# Altium footprint library ESP32-S3-WROOM-1.PcbLib: 40 footprints (part 1 of 3)
Each footprint in its own frame and in the unit in brackets; x right, y up, seen from the top. Pads: shape width x height; smd on the part's side, far side on the other; paste and mask are expansions set on the pad; w line width, h text height; cw(c..) or ccw(c..) is an arc to the next point about the centre after c.
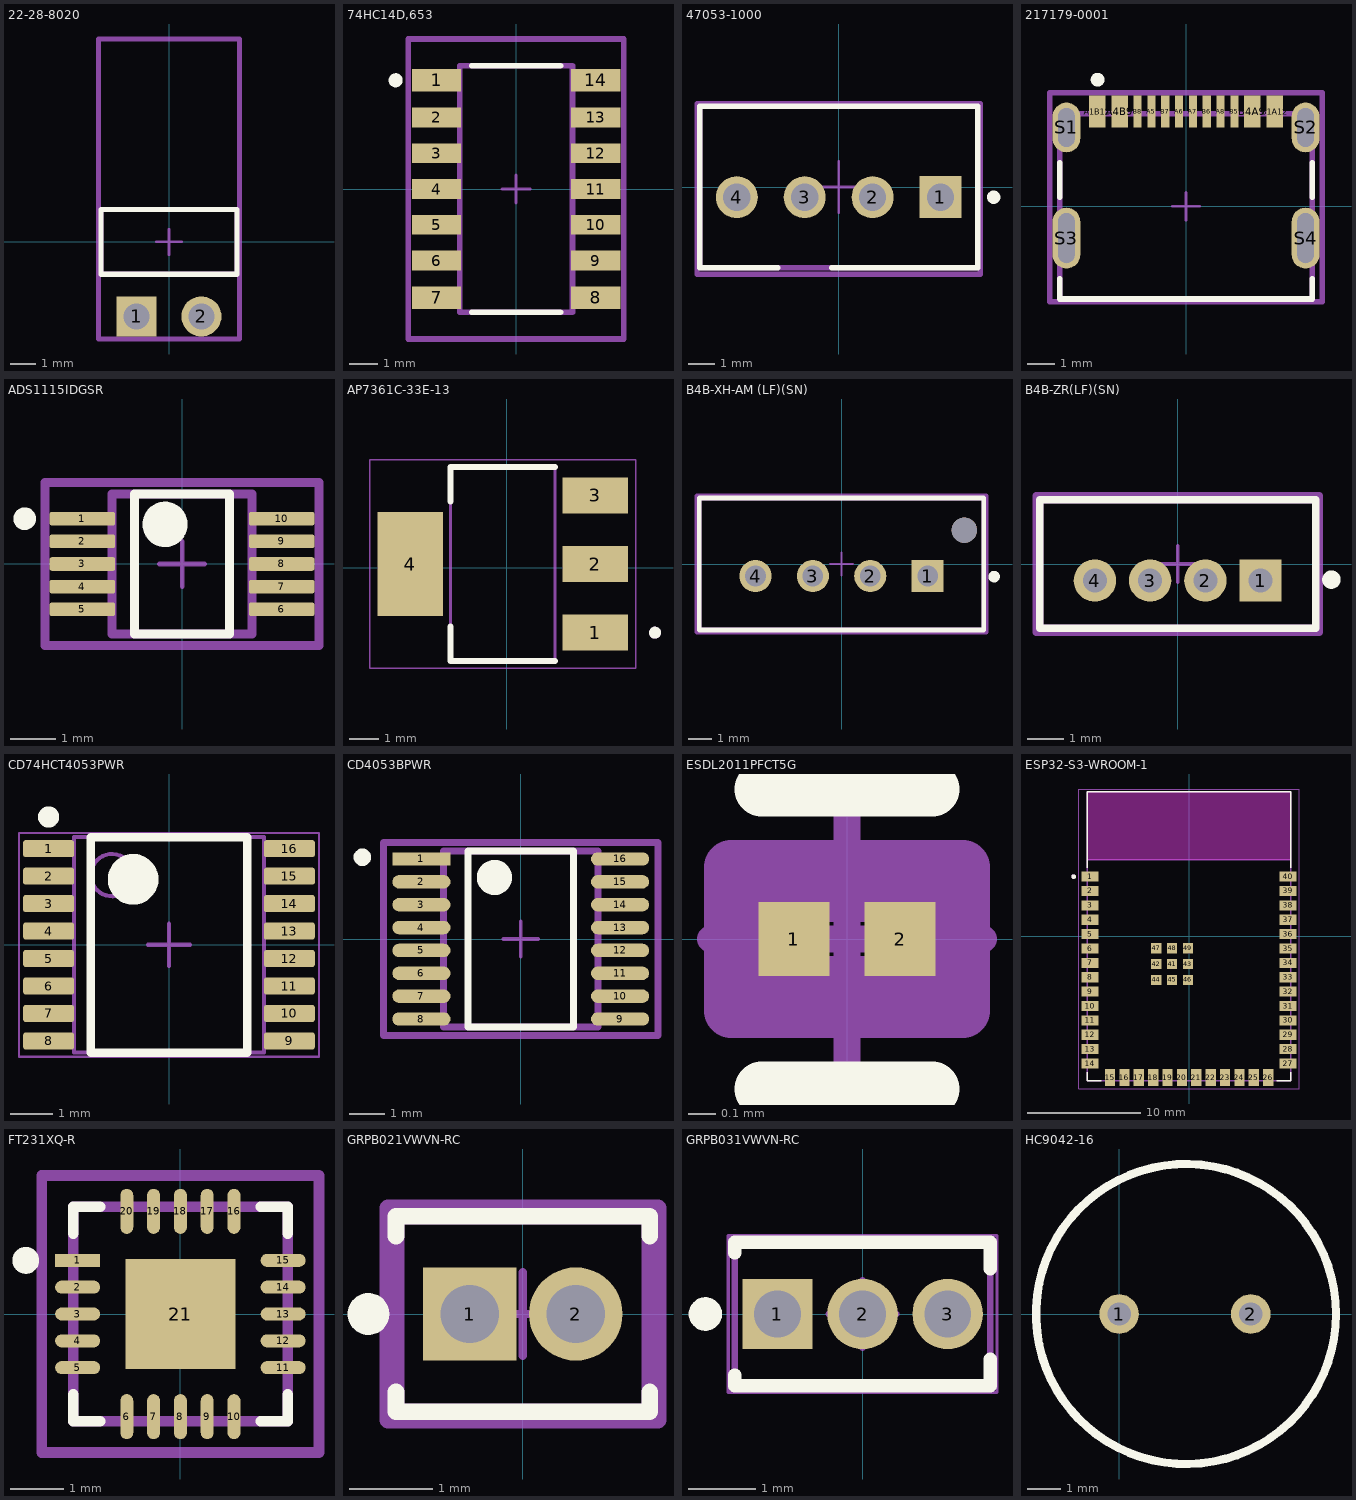
[diagram p0: the footprints below, top view; thin cyan lines are the x and y axes]

## 22-28-8020 [mm]
pads (2):
  rect 1.57x1.57 hole 1.02 paste-2539.97 mask+0: 1(-1.27,-2.925)
  round 1.57 hole 1.02 paste-2539.97 mask+0: 2(1.27,-2.925)
Top Overlay:
  lines w0.2: -2.665,-1.27 2.665,-1.27 2.665,1.27 -2.665,1.27 -2.665,-1.27
Top Assembly:
  lines w0.2: -2.765,-3.81 2.765,-3.81 2.765,7.95 -2.765,7.95 -2.765,-3.81
  text ".Designator" at 0,2.069 h1
Top 3D Body:
  lines w0.2: -2.665,-1.27 2.665,-1.27 2.665,1.27 -2.665,1.27 -2.665,-1.27
Top Courtyard:
  lines w0.2: -2.765,-3.81 2.765,-3.81 2.765,7.95 -2.765,7.95 -2.765,-3.81
Top Component Center:
  lines w0.1: -0.5,0 0.5,0 ; 0,-0.5 0,0.5
3D body "Conn_Molex_22-28-8020_eec.STEP": height 0.25, standoff 0, extent -2.765,-3.81 2.765,7.95

## 74HC14D,653 [mm]
pads (14):
  rect 1.75x0.8 smd paste-1000 mask+0: 1(-2.825,3.86) 7(-2.825,-3.86) 8(2.825,-3.86) 14(2.825,3.86)
  rect 1.75x0.7 smd paste-1000 mask+0: 2(-2.825,2.54) 3(-2.825,1.27) 4(-2.825,0) 5(-2.825,-1.27) 6(-2.825,-2.54) 9(2.825,-2.54) 10(2.825,-1.27) 11(2.825,0) 12(2.825,1.27) 13(2.825,2.54)
Top Overlay:
  circle w0.25: c-4.275,3.86 r0.125
  lines w0.2: -1.575,-4.375 1.575,-4.375 ; -1.575,4.375 1.575,4.375
Top Paste:
  rectangle: -3.65,2.24 -2,2.84
  rectangle: -3.65,0.97 -2,1.57
  rectangle: -3.65,-0.3 -2,0.3
  rectangle: -3.65,-1.57 -2,-0.97
  rectangle: -3.65,-2.84 -2,-2.24
  rectangle: 2,-2.84 3.65,-2.24
  rectangle: 2,-1.57 3.65,-0.97
  rectangle: 2,-0.3 3.65,0.3
  rectangle: 2,0.97 3.65,1.57
  rectangle: 2,2.24 3.65,2.84
  rectangle: -3.65,3.51 -2,4.21
  rectangle: -3.65,-4.21 -2,-3.51
  rectangle: 2,-4.21 3.65,-3.51
  rectangle: 2,3.51 3.65,4.21
Top Assembly:
  lines w0.2: -3.825,-5.325 3.825,-5.325 3.825,5.325 -3.825,5.325 -3.825,-5.325
  text ".Designator" at 0,0.188 h1
Top 3D Body:
  lines w0.2: -2,-4.375 2,-4.375 2,4.375 -2,4.375 -2,-4.375
Top Courtyard:
  lines w0.2: -3.825,-5.325 3.825,-5.325 3.825,5.325 -3.825,5.325 -3.825,-5.325
Top Component Center:
  lines w0.1: -0.5,0 0.5,0 ; 0,-0.5 0,0.5
3D body "IC_Nexperia_74HC14D_653_eec.STEP": height 0.25, standoff 0, extent -3.825,-5.325 3.825,5.325

## 47053-1000 [mm]
pads (4):
  rect 1.57x1.57 hole 1.02 paste-2539.97 mask+0: 1(3.81,-0.38)
  round 1.57 hole 1.02 paste-2539.97 mask+0: 2(1.27,-0.38) 3(-1.27,-0.38) 4(-3.81,-0.38)
Top Overlay:
  circle w0.25: c5.8,-0.38 r0.125
  lines w0.2: -2.27,-3.02 -5.2,-3.02 -5.2,3.02 5.2,3.02 5.2,-3.02 -0.27,-3.02
Top Assembly:
  lines w0.2: -5.3,-3.265 5.3,-3.265 5.3,3.12 -5.3,3.12 -5.3,-3.265
  text ".Designator" at 0,-0.073 h1
Top 3D Body:
  lines w0.2: -5.2,-3.02 5.2,-3.02 5.2,3.02 -5.2,3.02 -5.2,-3.02
Top Courtyard:
  lines w0.2: -5.3,-3.265 5.3,-3.265 5.3,3.12 -5.3,3.12 -5.3,-3.265
Top Component Center:
  lines w0.1: -0.958,0 0.958,0 ; 0,-0.958 0,0.958
3D body "Conn_Molex_470531000_eec.STEP": height 0.25, standoff 0, extent -5.3,-3.265 5.3,3.12

## 217179-0001 [mm]
pads (16):
  rect 0.6x1.15 smd paste+0 mask+0: A1B12(-3.2,3.425) A4B9(-2.4,3.425) B1A12(3.2,3.425) B4A9(2.4,3.425)
  rect 0.3x1.15 smd paste+0 mask+0: A5(-1.25,3.425) A6(-0.25,3.425) A7(0.25,3.425) A8(1.25,3.425) B5(1.75,3.425) B6(0.75,3.425) B7(-0.75,3.425) B8(-1.75,3.425)
  rrect100% 1x1.8 hole 1.4 slot 0.6 at 0 deg paste-2539.97 mask+0: S1(-4.32,2.85) S2(4.32,2.85)
  rrect100% 1x2.2 hole 1.8 slot 0.6 at 0 deg paste-2539.97 mask+0: S3(-4.32,-1.15) S4(4.32,-1.15)
Top Overlay:
  circle w0.25: c-3.195,4.575 r0.125
  lines w0.2: -4.57,-2.625 -4.57,-3.35 4.57,-3.35 4.57,-2.625 ; -4.57,0.325 -4.57,1.575 ; 4.57,0.325 4.57,1.575
Top Assembly:
  lines w0.2: -4.92,-3.45 -4.92,4.1 4.92,4.1 4.92,-3.45 -4.92,-3.45
  text ".Designator" at 0,0.513 h1
Top 3D Body:
  lines w0.2: -4.57,-3.35 -4.57,3.35 4.57,3.35 4.57,-3.35 -4.57,-3.35
Top Courtyard:
  lines w0.2: -4.92,-3.45 -4.92,4.1 4.92,4.1 4.92,-3.45 -4.92,-3.45
Top Component Center:
  lines w0.1: -0.5,0 0.5,0 ; 0,-0.5 0,0.5
3D body "Conn_Molex_2171790001_eec.STEP": height 0.25, standoff 0, extent -4.92,-3.45 4.92,4.1

## ADS1115IDGSR [mm]
pads (10):
  rrect33% 1.45x0.3 smd paste+0 mask+0: 1(-2.2,1) 2(-2.2,0.5) 3(-2.2,0) 4(-2.2,-0.5) 5(-2.2,-1) 6(2.2,-1) 7(2.2,-0.5) 8(2.2,0) 9(2.2,0.5) 10(2.2,1)
Top Overlay:
  circle w0.25: c-3.475,1 r0.125
  circle w0.5: c-0.375,0.875 r0.25
  lines w0.2: -1.05,-1.55 1.05,-1.55 1.05,1.55 -1.05,1.55 -1.05,-1.55
Top Assembly:
  lines w0.2: -3.025,-1.8 3.025,-1.8 3.025,1.8 -3.025,1.8 -3.025,-1.8
  text ".Designator" at 0,0.188 h1
Top 3D Body:
  lines w0.2: -1.55,-1.55 1.55,-1.55 1.55,1.55 -1.55,1.55 -1.55,-1.55
Top Courtyard:
  lines w0.2: -3.025,-1.8 3.025,-1.8 3.025,1.8 -3.025,1.8 -3.025,-1.8
Top Component Center:
  lines w0.1: -0.5,0 0.5,0 ; 0,-0.5 0,0.5
3D body "IC_Texas_Instruments_TS5A23159DGSR_eec.STEP": height 0.25, standoff 0, extent -3.025,-1.8 3.025,1.8

## AP7361C-33E-13 [mm]
pads (4):
  rect 2.2x1.2 smd: 1(2.973,-2.173) 2(2.973,0.127) 3(2.973,2.427)
  rect 2.2x3.5 smd: 4(-3.227,0.127)
Top Overlay:
  circle w0.2: c4.973,-2.173 r0.1
  lines w0.2: -1.877,-1.973 -1.877,-3.123 1.623,-3.123 ; -1.877,2.227 -1.877,3.377 1.623,3.377
Top 3D Body:
  circle w0.2: c4.973,-2.173 r0.1
  lines w0.1: -1.877,-3.123 1.623,-3.123 1.623,3.377 -1.877,3.377 -1.877,-3.123
Top Courtyard:
  lines w0.05: -4.577,-3.373 4.323,-3.373 4.323,3.627 -4.577,3.627 -4.577,-3.373
3D body "step_temp.STEP": height 1.65, standoff 0, extent -3.627,-3.123 3.373,3.377

## B4B-XH-AM (LF)(SN) [mm]
pads (5):
  rect 1.4x1.4 hole 0.9 paste-2539.97 mask+0: 1(3.75,-0.525)
  round 1.4 hole 0.9 paste-2539.97 mask+0: 2(1.25,-0.525) 3(-1.25,-0.525) 4(-3.75,-0.525)
  round 1.1 hole 1.1 unplated paste-2539.97 mask+0: ""(5.35,1.475)
Top Overlay:
  circle w0.25: c6.65,-0.55 r0.125
  lines w0.2: -6.2,-2.875 6.2,-2.875 6.2,2.875 -6.2,2.875 -6.2,-2.875
Top Assembly:
  lines w0.2: -6.3,-2.975 6.3,-2.975 6.3,2.975 -6.3,2.975 -6.3,-2.975
  text ".Designator" at 0,0.188 h1
Top 3D Body:
  lines w0.2: -6.2,-2.875 6.2,-2.875 6.2,2.875 -6.2,2.875 -6.2,-2.875
Top Courtyard:
  lines w0.2: -6.3,-2.975 6.3,-2.975 6.3,2.975 -6.3,2.975 -6.3,-2.975
Top Component Center:
  lines w0.1: -0.5,0 0.5,0 ; 0,-0.5 0,0.5
3D body "Conn_JST_B4B-XH-AM_LF_SN_eec.STEP": height 0.25, standoff 0, extent -6.3,-2.975 6.3,2.975

## B4B-ZR(LF)(SN) [mm]
pads (4):
  rect 1.15x1.15 hole 0.65 paste-2539.97 mask+0: 1(2.25,-0.45)
  round 1.15 hole 0.65 paste-2539.97 mask+0: 2(0.75,-0.45) 3(-0.75,-0.45) 4(-2.25,-0.45)
Top Overlay:
  circle w0.25: c4.175,-0.425 r0.125
  lines w0.2: -3.75,-1.75 3.75,-1.75 3.75,1.75 -3.75,1.75 -3.75,-1.75
Top Assembly:
  lines w0.2: -3.85,-1.85 3.85,-1.85 3.85,1.85 -3.85,1.85 -3.85,-1.85
  text ".Designator" at 0,0.188 h1
Top 3D Body:
  lines w0.2: -3.75,-1.75 3.75,-1.75 3.75,1.75 -3.75,1.75 -3.75,-1.75
Top Courtyard:
  lines w0.2: -3.85,-1.85 3.85,-1.85 3.85,1.85 -3.85,1.85 -3.85,-1.85
Top Component Center:
  lines w0.1: -0.5,0 0.5,0 ; 0,-0.5 0,0.5
3D body "Conn_JST_B4B-ZR_LF_SN_eec.STEP": height 0.25, standoff 0, extent -3.85,-1.85 3.85,1.85

## CD74HCT4053PWR [mm] "SOP, 16-Leads, Body 5.1x4.5mm, Pitch 0.65mm, IPC High Density"
height 1.2
pads (16):
  rrect25% 1.2x0.4 smd: 1(-2.85,2.275) 2(-2.85,1.625) 3(-2.85,0.975) 4(-2.85,0.325) 5(-2.85,-0.325) 6(-2.85,-0.975) 7(-2.85,-1.625) 8(-2.85,-2.275) 9(2.85,-2.275) 10(2.85,-1.625) 11(2.85,-0.975) 12(2.85,-0.325) 13(2.85,0.325) 14(2.85,0.975) 15(2.85,1.625) 16(2.85,2.275)
Top Overlay:
  circle w0.6: c-0.85,1.55 r0.3
  circle w0.25: c-2.85,3.025 r0.125
  lines w0.2: -1.85,-2.55 1.85,-2.55 1.85,2.55 -1.85,2.55 -1.85,-2.55
Mechanical 1:
  text ".Designator" at -1.524,-0.508 h1.02
Top 3D Body:
  circle w0.1: c-1.35,1.65 r0.5
  lines w0.1: -2.25,-2.55 2.25,-2.55 2.25,2.55 -2.25,2.55 -2.25,-2.55
Top Courtyard:
  lines w0.05: -3.55,-2.65 3.55,-2.65 3.55,2.65 -3.55,2.65 -3.55,-2.65
  lines w0.1: -0.5,0 0.5,0 ; 0,-0.5 0,0.5
3D body "PW0016AakaMTC16.stp": height 1, standoff 0, extent -3.21,-2.5 3.21,2.5

## CD4053BPWR [mm]
pads (16):
  rect 1.655x0.381 smd paste+0 mask+0: 1(-2.825,2.275)
  rrect100% 1.655x0.381 smd paste+0 mask+0: 2(-2.825,1.625) 3(-2.825,0.975) 4(-2.825,0.325) 5(-2.825,-0.325) 6(-2.825,-0.975) 7(-2.825,-1.625) 8(-2.825,-2.275) 9(2.825,-2.275) 10(2.825,-1.625) 11(2.825,-0.975) 12(2.825,-0.325) 13(2.825,0.325) 14(2.825,0.975) 15(2.825,1.625) 16(2.825,2.275)
Top Overlay:
  circle w0.5: c-0.748,1.75 r0.25
  circle w0.25: c-4.503,2.325 r0.125
  lines w0.2: -1.498,-2.5 1.498,-2.5 1.498,2.5 -1.498,2.5 -1.498,-2.5
Top Assembly:
  lines w0.2: -3.903,-2.75 3.903,-2.75 3.903,2.75 -3.903,2.75 -3.903,-2.75
  text ".Designator" at 0,0.188 h1
Top 3D Body:
  lines w0.2: -2.2,-2.5 2.2,-2.5 2.2,2.5 -2.2,2.5 -2.2,-2.5
Top Courtyard:
  lines w0.2: -3.903,-2.75 3.903,-2.75 3.903,2.75 -3.903,2.75 -3.903,-2.75
Top Component Center:
  lines w0.1: -0.5,0 0.5,0 ; 0,-0.5 0,0.5
3D body "IC_TEXAS_INSTRUMENTS_SN74HC165PWR_eec.STEP": height 0.25, standoff 0, extent -3.903,-2.75 3.903,2.75

## ESDL2011PFCT5G [mm]
pads (2):
  rect 0.26x0.27 smd paste+0 mask+0: 1(-0.195,0) 2(0.195,0)
Top Overlay:
  lines w0.2: -0.312,-0.55 0.312,-0.55 ; -0.312,0.55 0.312,0.55
Top Assembly:
  lines w0.2: -0.425,-0.262 -0.425,0.262 0.425,0.262 0.425,-0.262 -0.425,-0.262
  text ".Designator" at 0,0.188 h1
Top 3D Body:
  lines w0.2: -0.312,-0.162 -0.312,0.162 0.312,0.162 0.312,-0.162 -0.312,-0.162
Top Courtyard:
  lines w0.2: -0.425,-0.262 -0.425,0.262 0.425,0.262 0.425,-0.262 -0.425,-0.262
Top Component Center:
  lines w0.1: -0.5,0 0.5,0 ; 0,-0.5 0,0.5
3D body "Diode_ON_Semiconductor_ESDL2011PFCT5G_eec.STEP": height 0.25, standoff 0, extent -0.425,-0.262 0.425,0.262

## ESP32-S3-WROOM-1 [mm]
pads (49):
  rect 1.5x0.9 smd: 1(-8.75,5.26) 2(-8.75,3.99) 3(-8.75,2.72) 4(-8.75,1.45) 5(-8.75,0.18) 6(-8.75,-1.09) 7(-8.75,-2.36) 8(-8.75,-3.63) 9(-8.75,-4.9) 10(-8.75,-6.17) 11(-8.75,-7.44) 12(-8.75,-8.71) 13(-8.75,-9.98) 14(-8.75,-11.25) 27(8.75,-11.25) 28(8.75,-9.98) 29(8.75,-8.71) 30(8.75,-7.44) 31(8.75,-6.17) 32(8.75,-4.9) 33(8.75,-3.63) 34(8.75,-2.36) 35(8.75,-1.09) 36(8.75,0.18) 37(8.75,1.45) 38(8.75,2.72) 39(8.75,3.99) 40(8.75,5.26)
  rect 0.9x1.5 smd: 15(-6.985,-12.5) 16(-5.715,-12.5) 17(-4.445,-12.5) 18(-3.175,-12.5) 19(-1.905,-12.5) 20(-0.635,-12.5) 21(0.635,-12.5) 22(1.905,-12.5) 23(3.175,-12.5) 24(4.445,-12.5) 25(5.715,-12.5) 26(6.985,-12.5)
  rect 0.9x0.9 smd: 41(-1.5,-2.46) 42(-2.9,-2.46) 43(-0.1,-2.46) 44(-2.9,-3.86) 45(-1.5,-3.86) 46(-0.1,-3.86) 47(-2.9,-1.06) 48(-1.5,-1.06) 49(-0.1,-1.06)
Top Overlay:
  circle w0.2: c-10.2,5.26 r0.1
  lines w0.127: -9,-12.02 -9,-12.75 -7.755,-12.75 ; -9,6.03 -9,12.75 9,12.75 9,6.03 ; 7.755,-12.75 9,-12.75 9,-12.02
Keep-Out Layer:
  region: 9,6.75 -9,6.75 -9,12.75 9,12.75
  region: 9,6.75 -9,6.75 -9,12.75 9,12.75
Top 3D Body:
  circle w0.2: c-10.2,5.26 r0.1
  lines w0.127: -9,6.75 -9,-12.75 9,-12.75 9,6.75 ; -9,6.75 -9,12.75 9,12.75 9,6.75 ; -9,6.75 9,6.75
  text "ANTENNA" at -4.5,9.5 h1.27
Top Courtyard:
  lines w0.05: -9.75,-13.5 -9.75,13 9.75,13 9.75,-13.5 -9.75,-13.5
3D body "step_temp.STEP": height 3.25, standoff 0, extent -9,-12.75 9,12.75

## FT231XQ-R [mm]
pads (21):
  rect 0.84x0.242 smd paste+0 mask+0: 1(-1.916,1)
  rrect100% 0.84x0.242 smd paste+0 mask+0: 2(-1.916,0.5) 3(-1.916,0) 4(-1.916,-0.5) 5(-1.916,-1) 11(1.916,-1) 12(1.916,-0.5) 13(1.916,0) 14(1.916,0.5) 15(1.916,1)
  rrect100% 0.242x0.84 smd paste+0 mask+0: 6(-1,-1.916) 7(-0.5,-1.916) 8(0,-1.916) 9(0.5,-1.916) 10(1,-1.916) 16(1,1.916) 17(0.5,1.916) 18(0,1.916) 19(-0.5,1.916) 20(-1,1.916)
  rect 2.05x2.05 smd paste-1000 mask+0: 21(0,0)
Top Overlay:
  circle w0.25: c-2.885,1 r0.125
  lines w0.2: -2,-1.5 -2,-2 -1.5,-2 ; -2,1.5 -2,2 -1.5,2 ; 1.5,-2 2,-2 2,-1.5 ; 1.5,2 2,2 2,1.5
Top Paste:
  rectangle: -0.648,-0.648 0.648,0.648
Top Assembly:
  lines w0.2: -2.585,-2.585 2.585,-2.585 2.585,2.585 -2.585,2.585 -2.585,-2.585
  text ".Designator" at 0,0.188 h1
Top 3D Body:
  lines w0.2: -2,-2 2,-2 2,2 -2,2 -2,-2
Top Courtyard:
  lines w0.2: -2.585,-2.585 2.585,-2.585 2.585,2.585 -2.585,2.585 -2.585,-2.585
Top Component Center:
  lines w0.1: -0.5,0 0.5,0 ; 0,-0.5 0,0.5
3D body "IC_FTDI_FT231XQ-R_eec.STEP": height 0.25, standoff 0, extent -2.585,-2.585 2.585,2.585

## GRPB021VWVN-RC [mm]
pads (2):
  rect 1.12x1.12 hole 0.7 paste-2539.97 mask+0: 1(-0.635,0)
  round 1.12 hole 0.7 paste-2539.97 mask+0: 2(0.635,0)
Top Overlay:
  circle w0.25: c-1.85,0 r0.125
  lines w0.2: -1.52,-0.935 -1.52,-1.17 1.52,-1.17 1.52,-0.935 ; -1.52,0.935 -1.52,1.17 1.52,1.17 1.52,0.935
Top Assembly:
  lines w0.2: -1.62,-1.27 1.62,-1.27 1.62,1.27 -1.62,1.27 -1.62,-1.27
  text ".Designator" at 0,0.188 h1
Top 3D Body:
  lines w0.2: -1.52,-1.17 1.52,-1.17 1.52,1.17 -1.52,1.17 -1.52,-1.17
Top Courtyard:
  lines w0.2: -1.62,-1.27 1.62,-1.27 1.62,1.27 -1.62,1.27 -1.62,-1.27
Top Component Center:
  lines w0.1: -0.5,0 0.5,0 ; 0,-0.5 0,0.5
3D body "Conn_Sullins_GRPB021VWVN-RC_eec.STEP": height 0.25, standoff 0, extent -1.62,-1.27 1.62,1.27

## GRPB031VWVN-RC [mm] "Header, 3-Leads, Body 3.81x2.14mm, Pitch 1.27mm"
height 4
pads (3):
  rect 1.05x1.05 hole 0.7: 1(-1.27,0)
  round 1.05 hole 0.7: 2(0,0) 3(1.27,0)
Top Overlay:
  circle w0.25: c-2.345,0 r0.125
  lines w0.2: -1.905,-0.91 -1.905,-1.07 1.905,-1.07 1.905,-0.673 ; -1.905,0.91 -1.905,1.07 1.905,1.07 1.905,0.673
Top 3D Body:
  lines w0.1: -1.905,-1.07 -1.905,1.07 1.905,1.07 1.905,-1.07 -1.905,-1.07
Top Courtyard:
  lines w0.05: -2.005,-1.17 2.005,-1.17 2.005,1.17 -2.005,1.17 -2.005,-1.17
  lines w0.1: -0.5,0 0.5,0 ; 0,-0.5 0,0.5
3D body "_ _ _B031VWVN-RC.STEP": height 4, standoff -2.3, extent -1.905,-1.07 1.905,1.07

## HC9042-16 [mm]
pads (2):
  round 1.2 hole 0.711: 1(0,0) 2(4,0)
Top Overlay:
  circle w0.254: c2.032,0 r4.553
3D body "Unnamed-3686C448-B03B-47B6-AB57-14FB2E0D9DAD004.step": height 5, standoff -5.5, extent -2.718,-4.75 6.782,4.75